# Altium footprint library ESP8622.PcbLib: 2 footprints
Each footprint in its own frame and in the unit in brackets; x right, y up, seen from the top. Pads: shape width x height; smd on the part's side, far side on the other; paste and mask are expansions set on the pad; w line width, h text height; cw(c..) or ccw(c..) is an arc to the next point about the centre after c.
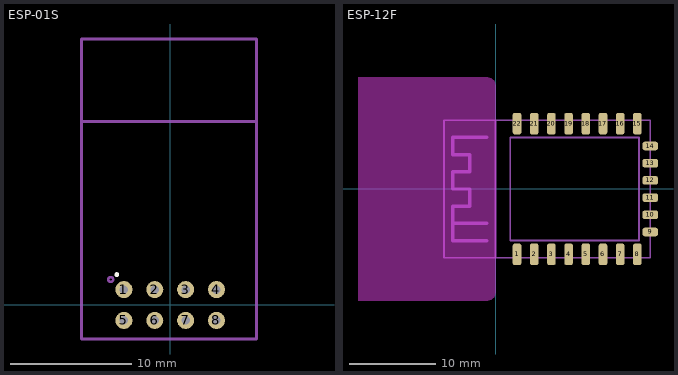
[diagram p0: the footprints below, top view; thin cyan lines are the x and y axes]

## ESP-01S [mm]
pads (9):
  round 0.4 on Top Overlay: 1(-4.4,2.5)
  round 1.4 hole 0.7: 1(-3.81,1.27) 2(-1.27,1.27) 3(1.27,1.27) 4(3.81,1.27) 5(-3.81,-1.27) 6(-1.27,-1.27) 7(1.27,-1.27) 8(3.81,-1.27)
Top Assembly:
  circle w0.2: c-4.9,2.1 r0.2
  lines w0.254: -7.3,15.1 7,15.1 ; -7.3,-2.8 -7.3,21.9 7.1,21.9 7.1,-2.8 -7.3,-2.8
3D body: height 5, standoff -1.6, extent 3.51,-1.57 4.11,-0.97
3D body: height 5, standoff -1.6, extent 3.51,0.97 4.11,1.57
3D body: height 5, standoff -1.6, extent 0.97,0.97 1.57,1.57
3D body: height 5, standoff -1.6, extent -1.57,0.97 -0.97,1.57
3D body: height 5, standoff -1.6, extent -4.11,0.97 -3.51,1.57
3D body: height 5, standoff -1.6, extent 0.97,-1.57 1.57,-0.97
3D body: height 5, standoff -1.6, extent -1.57,-1.57 -0.97,-0.97
3D body: height 5, standoff -1.6, extent -4.11,-1.57 -3.51,-0.97
3D body: height 3, standoff 1.5, extent -7.3,-2.8 7.1,21.9
3D body: height 3, standoff 3, extent -5,16.25 6.25,21.25

## ESP-12F [mm]
pads (22):
  rrect50% 1x2.5 smd: 1(2.5,-7.6) 2(4.5,-7.6) 3(6.5,-7.6) 4(8.5,-7.6) 5(10.5,-7.6) 6(12.5,-7.6) 7(14.5,-7.6) 8(16.5,-7.6) 15(16.5,7.6) 16(14.5,7.6) 17(12.5,7.6) 18(10.5,7.6) 19(8.5,7.6) 20(6.5,7.6) 21(4.5,7.6) 22(2.5,7.6)
  rrect50% 1.8x1 smd: 9(18,-5) 10(18,-3) 11(18,-1) 12(18,1) 13(18,3) 14(18,5)
Keep-Out Layer:
  region: -16,13 -1,13 -0.902,13 -0.708,12.962 -0.526,12.886 -0.363,12.777 -0.223,12.637 -0.114,12.474 -0.038,12.292 0,12.098 0,12 0,-12 0,-12.098 -0.038,-12.292 -0.114,-12.474 -0.223,-12.637 -0.363,-12.777 -0.526,-12.886 -0.708,-12.962 -0.902,-13 -1,-13 -16,-13
Top Assembly:
  lines w0.2: 0,-8 0,8 ; -6,-8 18,-8 18,8 -6,8 -6,-8 ; 1.7,-6 16.7,-6 16.7,6 1.7,6 1.7,-6
  lines w0.4: -5,-4 -1,-4 ; -1,-6 -5,-6 -5,-2 -3,-2 -3,0 -5,0 -5,2 -3,2 -3,4 -5,4 -5,6 -1,6
3D body: height 3.1, standoff 0.8, extent 1.7,-6 16.7,6
3D body: height 0.8, standoff 0, extent 2,6.5 3,8
3D body: height 0.8, standoff 0, extent 4,6.5 5,8
3D body: height 0.8, standoff 0, extent 6,6.5 7,8
3D body: height 0.8, standoff 0, extent 8,6.5 9,8
3D body: height 0.8, standoff 0, extent 10,6.5 11,8
3D body: height 0.8, standoff 0, extent 12,6.5 13,8
3D body: height 0.8, standoff 0, extent 14,6.5 15,8
3D body: height 0.8, standoff 0, extent 16,6.5 17,8
3D body: height 0.8, standoff 0, extent 17.5,4.5 18,5.5
3D body: height 0.8, standoff 0, extent 17.5,2.5 18,3.5
3D body: height 0.8, standoff 0, extent 17.5,0.5 18,1.5
3D body: height 0.8, standoff 0, extent 17.5,-1.5 18,-0.5
3D body: height 0.8, standoff 0, extent 17.5,-3.5 18,-2.5
3D body: height 0.8, standoff 0, extent 17.5,-5.5 18,-4.5
3D body: height 0.8, standoff 0, extent 16,-8 17,-6.5
3D body: height 0.8, standoff 0, extent 14,-8 15,-6.5
3D body: height 0.8, standoff 0, extent 12,-8 13,-6.5
3D body: height 0.8, standoff 0, extent 10,-8 11,-6.5
3D body: height 0.8, standoff 0, extent 8,-8 9,-6.5
3D body: height 0.8, standoff 0, extent 6,-8 7,-6.5
3D body: height 0.8, standoff 0, extent 4,-8 5,-6.5
3D body: height 0.8, standoff 0, extent 2,-8 3,-6.5
3D body: height 0.8, standoff 0, extent -6,-8 18,8
3D body: height 0.83, standoff 0.8, extent -5.2,-6.2 -0.8,6.2